# EAGLE library part ACS37800 (library New-Parts_SparkFun-IC-Power)
Allegro MicroSystems ACS37800 power monitoring IC
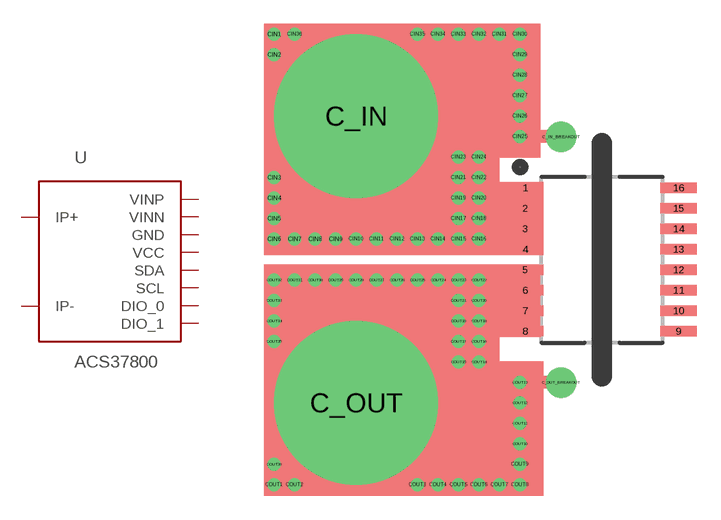
[diagram p0: symbol with the pads of ACS37800_THROUGH_HOLE; footprint ACS37800_THROUGH_HOLE]

Designator prefix -

## ACS37800 (DIGIKEY_PART: 620-ACS37800KMACTR-030B3-I2CCT-ND; MANU_PART: ACS37800KMACTR-030B3-I2C; PROD_ID: IC-15728)  [ACS37800_THROUGH_HOLE]
1  IP+
2  IP+
3  IP+
4  IP+
5  IP-
6  IP-
7  IP-
8  IP-
9  DIO_1
10  DIO_0
11  SCL
12  SDA
13  VCC  pwr
14  GND  pwr
15  VINN  pwr
16  VINP  pwr
C_IN  IP+
C_IN_BREAKOUT  IP+
C_OUT  IP-
C_OUT_BREAKOUT  IP-
CIN1  IP+
CIN2  IP+
CIN3  IP+
CIN4  IP+
CIN5  IP+
CIN6  IP+
CIN7  IP+
CIN8  IP+
CIN9  IP+
CIN10  IP+
CIN11  IP+
CIN12  IP+
CIN13  IP+
CIN14  IP+
CIN15  IP+
CIN16  IP+
CIN17  IP+
CIN18  IP+
CIN19  IP+
CIN20  IP+
CIN21  IP+
CIN22  IP+
CIN23  IP+
CIN24  IP+
CIN25  IP+
CIN26  IP+
CIN27  IP+
CIN28  IP+
CIN29  IP+
CIN30  IP+
CIN31  IP+
CIN32  IP+
CIN33  IP+
CIN34  IP+
CIN35  IP+
CIN36  IP+
COUT1  IP-
COUT2  IP-
COUT3  IP-
COUT4  IP-
COUT5  IP-
COUT6  IP-
COUT7  IP-
COUT8  IP-
COUT9  IP-
COUT10  IP-
COUT11  IP-
COUT12  IP-
COUT13  IP-
COUT14  IP-
COUT15  IP-
COUT16  IP-
COUT17  IP-
COUT18  IP-
COUT19  IP-
COUT20  IP-
COUT21  IP-
COUT22  IP-
COUT23  IP-
COUT24  IP-
COUT25  IP-
COUT26  IP-
COUT27  IP-
COUT28  IP-
COUT29  IP-
COUT30  IP-
COUT31  IP-
COUT32  IP-
COUT33  IP-
COUT34  IP-
COUT35  IP-
COUT36  IP-

## Footprint ACS37800_THROUGH_HOLE (pad centres in mm)
Allegro MicroSystems ACS37800 power monitoring IC with two 1/4" through-holes for current in/out
smd 2.25 x 0.65: 1 -4.75,4.445; 2 -4.75,3.175; 3 -4.75,1.905; 4 -4.75,0.635; 5 -4.75,-0.635; 6 -4.75,-1.905; 7 -4.75,-3.175; 8 -4.75,-4.445; 9 4.75,-4.445; 10 4.75,-3.175; 11 4.75,-1.905; 12 4.75,-0.635; 13 4.75,0.635; 14 4.75,1.905; 15 4.75,3.175; 16 4.75,4.445
drill 6.5 pad 10.16: C_IN -15.24,8.89; C_OUT -15.24,-8.89
drill 1.016 pad 1.88: C_IN_BREAKOUT -2.54,7.62; C_OUT_BREAKOUT -2.54,-7.62
drill 0.3: CIN1 -20.32,13.97; CIN2 -20.32,12.7; CIN3 -20.32,5.08; CIN4 -20.32,3.81; CIN5 -20.32,2.54; CIN6 -20.32,1.27; CIN7 -19.05,1.27; CIN8 -17.78,1.27; CIN9 -16.51,1.27; CIN10 -15.24,1.27; CIN11 -13.97,1.27; CIN12 -12.7,1.27; CIN13 -11.43,1.27; CIN14 -10.16,1.27; CIN15 -8.89,1.27; CIN16 -7.62,1.27; CIN17 -8.89,2.54; CIN18 -7.62,2.54; CIN19 -8.89,3.81; CIN20 -7.62,3.81; CIN21 -8.89,5.08; CIN22 -7.62,5.08; CIN23 -8.89,6.35; CIN24 -7.62,6.35; CIN25 -5.08,7.62; CIN26 -5.08,8.89; CIN27 -5.08,10.16; CIN28 -5.08,11.43; CIN29 -5.08,12.7; CIN30 -5.08,13.97; CIN31 -6.35,13.97; CIN32 -7.62,13.97; CIN33 -8.89,13.97; CIN34 -10.16,13.97; CIN35 -11.43,13.97; CIN36 -19.05,13.97; COUT1 -20.32,-13.97; COUT2 -19.05,-13.97; COUT3 -11.43,-13.97; COUT4 -10.16,-13.97; COUT5 -8.89,-13.97; COUT6 -7.62,-13.97; COUT7 -6.35,-13.97; COUT8 -5.08,-13.97; COUT9 -5.08,-12.7; COUT10 -5.08,-11.43; COUT11 -5.08,-10.16; COUT12 -5.08,-8.89; COUT13 -5.08,-7.62; COUT14 -7.62,-6.35; COUT15 -8.89,-6.35; COUT16 -7.62,-5.08; COUT17 -8.89,-5.08; COUT18 -7.62,-3.81; COUT19 -8.89,-3.81; COUT20 -7.62,-2.54; COUT21 -8.89,-2.54; COUT22 -7.62,-1.27; COUT23 -8.89,-1.27; COUT24 -10.16,-1.27; COUT25 -11.43,-1.27; COUT26 -12.7,-1.27; COUT27 -13.97,-1.27; COUT28 -15.24,-1.27; COUT29 -16.51,-1.27; COUT30 -17.78,-1.27; COUT31 -19.05,-1.27; COUT32 -20.32,-1.27; COUT33 -20.32,-2.54; COUT34 -20.32,-3.81; COUT35 -20.32,-5.08; COUT36 -20.32,-12.7